# EAGLE library part 556 (library code next)
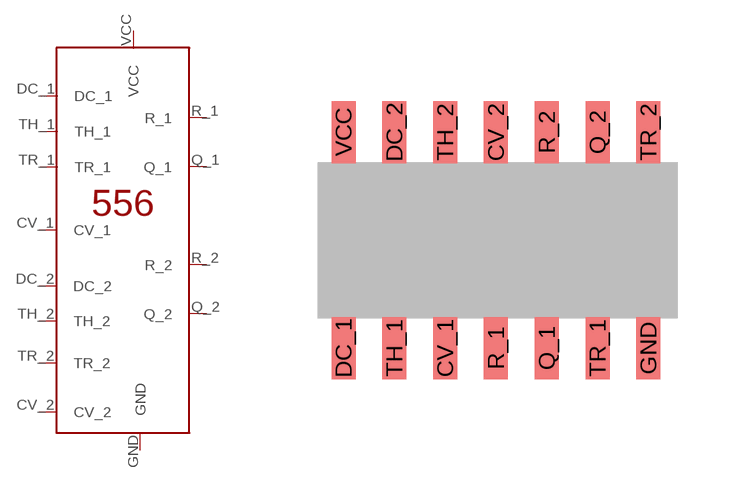
[diagram p2: symbol with the pads of 556_SMD; footprint 556_SMD]

Designator prefix -

## 556SMD  [556_SMD]
CV_1  CV_1
CV_2  CV_2
DC_1  DC_1
DC_2  DC_2
GND  GND
Q_1  Q_1
Q_2  Q_2
R_1  R_1
R_2  R_2
TH_1  TH_1
TH_2  TH_2
TR_1  TR_1
TR_2  TR_2
VCC  VCC

## Footprint 556_SMD (pad centres in mm)
smd 0.6 x 1.55: CV_1 2.54,-5.4; CV_2 3.81,0; DC_1 0,-5.4; DC_2 1.27,0; GND 7.62,-5.4; Q_1 5.08,-5.4; Q_2 6.35,0; R_1 3.81,-5.4; R_2 5.08,0; TH_1 1.27,-5.4; TH_2 2.54,0; TR_1 6.35,-5.4; TR_2 7.62,0; VCC 0,0